# EAGLE library part 2524-6002-* (library 3M)
24-Pin Shrouded Header 2500 Series 24-Pin Four-Wall Header .100" x .100" Spacing Low Profile Straight Through-Hole For .062" thick board Vertical UG = 15µ [0.38µm] Gold with 200µ [5.08µm] 60:40 Tin-Lead Solder Tails (RIA E3 & C2 apply) UB = 30µ [0.76µm] Gold with 200µ [5.05µm] 60:40 Tin-Lead Solder Tails (RIA E3 & C2 apply) RB = 30µ [0.76µm] Gold with 200µ [5.08µm] Matte Tin Solder Tails (RIA E1 & C1 apply) From 3M document TS-0770-E, dated March 24, 2008 http://www.3m.com/interconnects/
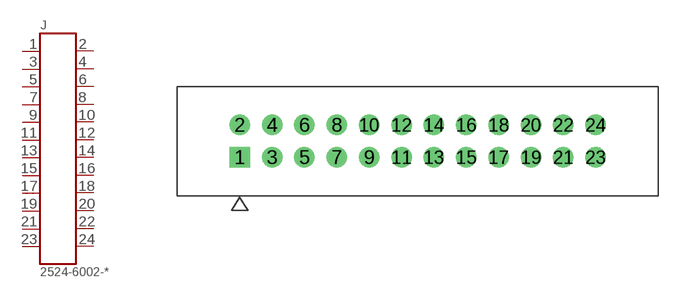
[diagram p3: symbol with the pads of 24POS; footprint 24POS]

Designator prefix J

## 2524-6002-UG  [24POS]
1  1  pas
2  2  pas
3  3  pas
4  4  pas
5  5  pas
6  6  pas
7  7  pas
8  8  pas
9  9  pas
10  10  pas
11  11  pas
12  12  pas
13  13  pas
14  14  pas
15  15  pas
16  16  pas
17  17  pas
18  18  pas
19  19  pas
20  20  pas
21  21  pas
22  22  pas
23  23  pas
24  24  pas

## 2524-6002-RB  [24POS]
Pads as for 24POS

## 2524-6002-UB  [24POS]
Pads as for 24POS

## Footprint 24POS (pad centres in mm)
drill 1.067 square: 1 -13.97,-1.27
drill 1.067 round: 2 -13.97,1.27; 3 -11.43,-1.27; 4 -11.43,1.27; 5 -8.89,-1.27; 6 -8.89,1.27; 7 -6.35,-1.27; 8 -6.35,1.27; 9 -3.81,-1.27; 10 -3.81,1.27; 11 -1.27,-1.27; 12 -1.27,1.27; 13 1.27,-1.27; 14 1.27,1.27; 15 3.81,-1.27; 16 3.81,1.27; 17 6.35,-1.27; 18 6.35,1.27; 19 8.89,-1.27; 20 8.89,1.27; 21 11.43,-1.27; 22 11.43,1.27; 23 13.97,-1.27; 24 13.97,1.27